# Altium footprint library DSP.PcbLib: 1 footprints
Each footprint in its own frame and in the unit in brackets; x right, y up, seen from the top. Pads: shape width x height; smd on the part's side, far side on the other; paste and mask are expansions set on the pad; w line width, h text height; cw(c..) or ccw(c..) is an arc to the next point about the centre after c.
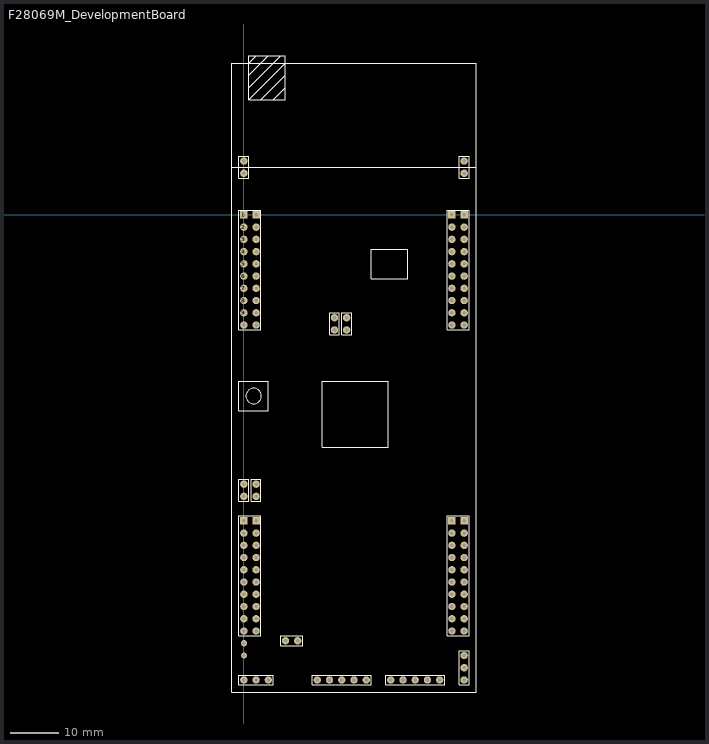
[diagram p0: the footprint, top view; thin cyan lines are the x and y axes]

## F28069M_DevelopmentBoard [mil]
pads (110):
  rect 60x60 hole 30: 1(0,0) 20(1800,0) 21(100,0) 40(1700,0) 41(0,-2500) 60(1800,-2500) 61(100,-2500) 80(1700,-2500)
  round 60 hole 30: 2(0,-100) 3(0,-200) 4(0,-300) 5(0,-400) 6(0,-500) 7(0,-600) 8(0,-700) 9(0,-800) 10(0,-900) 11(1800,-900) 12(1800,-800) 13(1800,-700) 14(1800,-600) 15(1800,-500) 16(1800,-400) 17(1800,-300) 18(1800,-200) 19(1800,-100) 22(100,-100) 23(100,-200) 24(100,-300) 25(100,-400) 26(100,-500) 27(100,-600) 28(100,-700) 29(100,-800) 30(100,-900) 31(1700,-900) 32(1700,-800) 33(1700,-700) 34(1700,-600) 35(1700,-500) 36(1700,-400) 37(1700,-300) 38(1700,-200) 39(1700,-100) 42(0,-2600) 43(0,-2700) 44(0,-2800) 45(0,-2900) 46(0,-3000) 47(0,-3100) 48(0,-3200) 49(0,-3300) 50(0,-3400) 51(1800,-3400) 52(1800,-3300) 53(1800,-3200) 54(1800,-3100) 55(1800,-3000) 56(1800,-2900) 57(1800,-2800) 58(1800,-2700) 59(1800,-2600) 62(100,-2600) 63(100,-2700) 64(100,-2800) 65(100,-2900) 66(100,-3000) 67(100,-3100) 68(100,-3200) 69(100,-3300) 70(100,-3400) 71(1700,-3400) 72(1700,-3300) 73(1700,-3200) 74(1700,-3100) 75(1700,-3000) 76(1700,-2900) 77(1700,-2800) 78(1700,-2700) 79(1700,-2600) 81(1800,-3600) 82(1800,-3700) 83(1800,-3800) 84(1600,-3800) 85(1500,-3800) 86(1400,-3800) 87(1300,-3800) 88(1200,-3800) 89(1000,-3800) 90(900,-3800) 91(800,-3800) 92(700,-3800) 93(600,-3800) 94(200,-3800) 95(100,-3800) 96(0,-3800) 97(1800,340) 98(1800,440) 99(0,340) 100(0,440) 101(0,-2300) 102(0,-2200) 103(100,-2300) 104(100,-2200) 105(740,-940) 106(740,-840) 107(840,-840) 108(840,-940) 109(340,-3480) 110(440,-3480)
via 0,-3500 diameter 50 hole 28
via 0,-3600 diameter 50 hole 28
Top Overlay:
  circle w10: c80,-1480 r63.25
  lines w10: -100,390 1900,390 ; 40,1040 300,1300 ; 40,1140 200,1300 ; 40,1240 100,1300 ; 140,940 340,1140 ; 240,940 340,1040 ; 340,1240 40,940 ; 40,940 40,1300 340,1300 340,940 40,940 ; -100,-3900 1900,-3900 1900,1240 -100,1240 -100,-3900 ; -40,-3840 240,-3840 240,-3760 -40,-3760 -40,-3840 ; -40,-3440 140,-3440 140,-2460 -40,-2460 -40,-3440 ; -40,-2340 -40,-2160 40,-2160 40,-2340 -40,-2340 ; -40,-1600 200,-1600 200,-1360 -40,-1360 -40,-1600 ; -40,-940 -40,40 140,40 140,-940 -40,-940 ; -40,300 -40,480 40,480 40,300 -40,300 ; 60,-2340 60,-2160 140,-2160 140,-2340 60,-2340 ; 300,-3520 480,-3520 480,-3440 300,-3440 300,-3520 ; 560,-3840 560,-3760 1040,-3760 1040,-3840 560,-3840 ; 640,-1900 1180,-1900 1180,-1360 640,-1360 640,-1900 ; 700,-980 700,-800 780,-800 780,-980 700,-980 ; 800,-980 800,-800 880,-800 880,-980 800,-980 ; 1040,-520 1340,-520 1340,-280 1040,-280 1040,-520 ; 1160,-3840 1640,-3840 1640,-3760 1160,-3760 1160,-3840 ; 1660,-3440 1840,-3440 1840,-2460 1660,-2460 1660,-3440 ; 1660,-940 1840,-940 1840,40 1660,40 1660,-940 ; 1760,-3840 1760,-3560 1840,-3560 1840,-3840 1760,-3840 ; 1760,300 1760,480 1840,480 1840,300 1760,300